# EAGLE library part ATTINY85_ATTIN85 (library Qwiic_Relay)
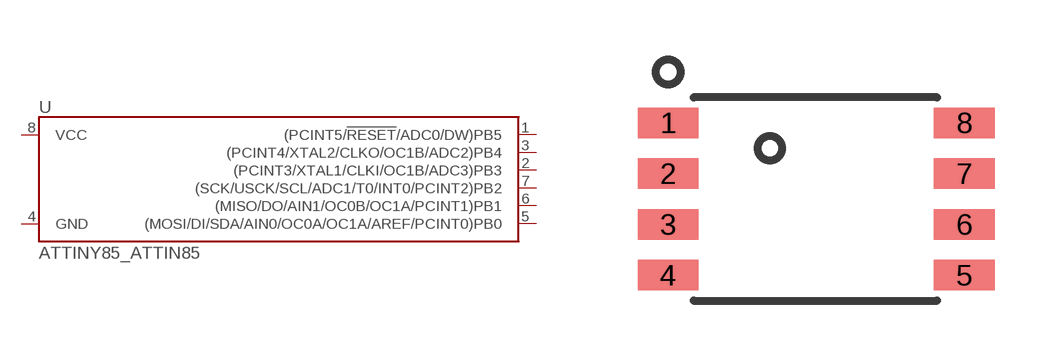
[diagram p1: symbol with the pads of ATTINY85_ATTINY85; footprint ATTINY85_ATTINY85]

Designator prefix U

## ATTINY85_ATTIN85_SOIC_5.3MM  [ATTINY85_ATTINY85]
1  (PCINT5/!RESET!/ADC0/DW)PB5
2  (PCINT3/XTAL1/CLKI/OC1B/ADC3)PB3
3  (PCINT4/XTAL2/CLKO/OC1B/ADC2)PB4
4  GND
5  (MOSI/DI/SDA/AIN0/OC0A/OC1A/AREF/PCINT0)PB0
6  (MISO/DO/AIN1/OC0B/OC1A/PCINT1)PB1
7  (SCK/USCK/SCL/ADC1/T0/INT0/PCINT2)PB2
8  VCC

## Footprint ATTINY85_ATTINY85 (pad centres in mm)
smd 1.524 x 0.762: 1 -3.683,1.905; 2 -3.683,0.635; 3 -3.683,-0.635; 4 -3.683,-1.905; 5 3.727,-1.905; 6 3.727,-0.635; 7 3.727,0.635; 8 3.727,1.905